# Altium integrated library 74LVC1G126GW_125.IntLib: 1 symbol
Pins are listed as number, name and electrical type; pins without a type are passive.

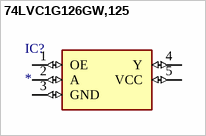
[diagram p0: symbol 74LVC1G126GW,125]

## 74LVC1G126GW,125
designator IC?
Buffer, Non-Inverting 1 Element 1 Bit per Element 3-State Output 5-TSSOP; MF: Nexperia USA Inc.; MP: 74LVC1G126GW,125; SnapEDA_Link: https://www.snapeda.com/parts/74LVC1G126GW,125/Nexperia/view-part/?ref=snap; Package: None; Value: *; Check_prices: https://www.snapeda.com/parts/74LVC1G126GW,125/Nexperia/view-part/?ref=eda
footprint SOT65P212X110-5N
pins: 1 OE (io), 2 A (io), 3 GND (io), 4 Y (io), 5 VCC (io)